# Altium schematic symbol library Schlib1.SchLib: 8 symbols
Pins are listed as number, name and electrical type; pins without a type are passive.

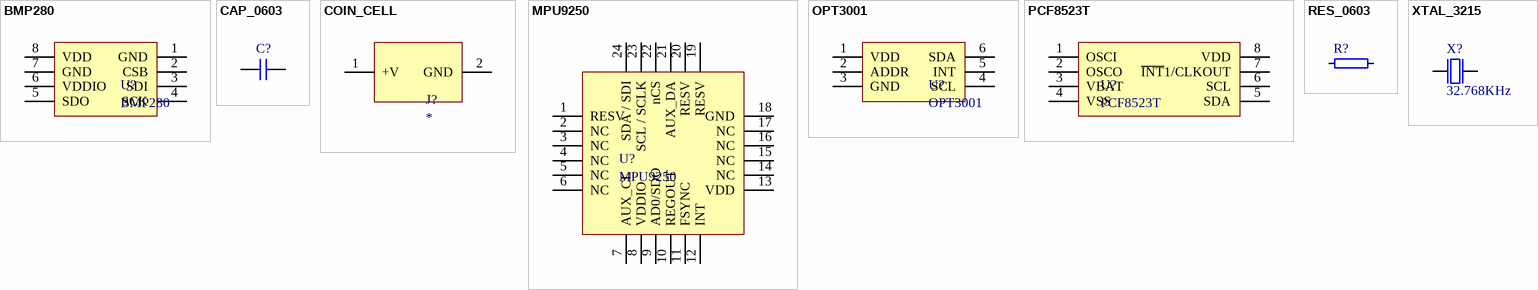
[diagram p0: symbols BMP280 to XTAL_3215]

## BMP280
designator U?
footprint SON65P200X100-8N (SON, 8-Leads, Body 2.50x2.00mm, Pitch 0.65mm, IPC Medium Density)
pins: 1 GND, 2 CSB, 3 SDI, 4 SCK, 5 SDO, 6 VDDIO, 7 GND, 8 VDD

## CAP_0603
designator C?
footprint CAPC1608X06L
pins: 1, 2

## COIN_CELL
designator J?
footprint SMTU1220-LF
pins: 1 +V, 2 GND

## MPU9250
designator U?
footprint QFN40P300X300X105_HS-25N (QFN, 24-Leads, Body 3.00x3.00mm, Pitch 0.40mm, Thermal Pad 1.70x1.54mm, IPC Medium Density)
pins: 1 RESV, 2 NC, 3 NC, 4 NC, 5 NC, 6 NC, 7 AUX_CL, 8 VDDIO, 9 AD0/SDO, 10 REGOUT, 11 FSYNC, 12 INT, 13 VDD, 14 NC, 15 NC, 16 NC, 17 NC, 18 GND, 19 RESV, 20 RESV, 21 AUX_DA, 22 nCS, 23 SCL / SCLK, 24 SDA / SDI

## OPT3001
designator U?
footprint SON65P200X65_HS-7N (SON, 6-Leads, Body 2.00x2.00mm, Pitch 0.65mm, Thermal Pad 1.35x0.65mm, IPC Medium Density)
pins: 1 VDD, 2 ADDR, 3 GND, 4 SCL, 5 INT, 6 SDA

## PCF8523T
designator U?
footprint SOIC127P600X175-8N (SOIC, 8-Leads, Body 4.90x3.90mm, Pitch 1.27mm, IPC Medium Density)
pins: 1 OSCI, 2 OSCO, 3 VBAT, 4 VSS, 5 SDA, 6 SCL, 7 ~{INT}1/CLKOUT, 8 VDD

## RES_0603
designator R?, comment Res  (value not drawn)
footprint RESC1608X06N (Chip Resistor, 2-Leads, Body 1.60x0.80mm, IPC Medium Density)
pins: 1, 2

## XTAL_3215
designator X?, comment 32.768KHz
32.768KHZ ±20PPM,9.0PF - CRYSTAL, SM, WATCH
footprint XTAL_3215
pins: 1 inp, 2 out